# Altium schematic symbol library Filters.SchLib: 3 symbols
Pins are listed as number, name and electrical type; pins without a type are passive.

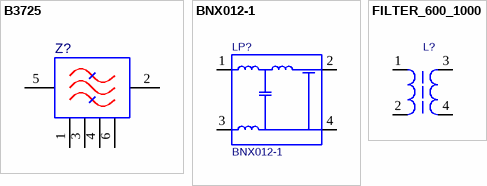
[diagram p0: symbols B3725 to FILTER_600_1000]

## B3725
designator Z?  (value not drawn)
footprint DCC6c
pins: 1, 2, 3, 4, 5, 6

## BNX012-1
designator LP?
Value: *
footprint BNX012-01
pins: 1 B, 2 CB, 3 PSG, 4 CG, 5 hidden, 6 hidden

## FILTER_600_1000
designator L?  (value not drawn)
FILTER_600_1000; Value: *
footprint FILTER_600_1000
pins: 1, 2, 3, 4, 5 hidden, 6 hidden, 7 hidden, 8 hidden